# Altium footprint library LTC2954.PcbLib: 4 footprints
Each footprint in its own frame and in the unit in brackets; x right, y up, seen from the top. Pads: shape width x height; smd on the part's side, far side on the other; paste and mask are expansions set on the pad; w line width, h text height; cw(c..) or ccw(c..) is an arc to the next point about the centre after c.
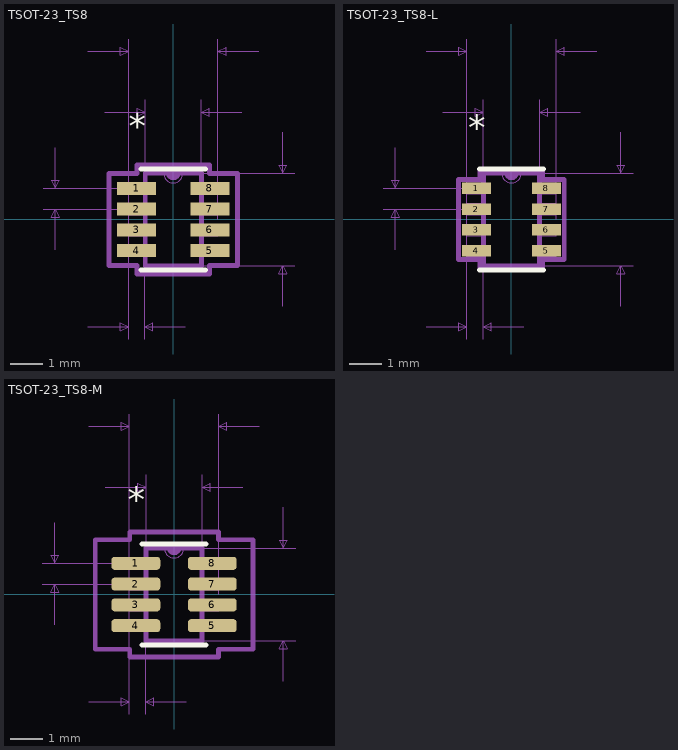
[diagram p0: the footprints below, top view; thin cyan lines are the x and y axes]

## PCBComponent_1 [mil]

## TSOT-23_TS8 [mil]
pads (8):
  rect 48x16 smd: 1(-45,38.39) 2(-45,12.8) 3(-45,-12.8) 4(-45,-38.39) 5(45,-38.39) 6(45,-12.8) 7(45,12.8) 8(45,38.39)
Top Overlay:
  lines w6: -39.5,-62 39.5,-62 ; -39.5,62 39.5,62
  text "*" at -55,99.39 h31.25
Mechanical 1:
  lines w1: -12,57 ccw(c0,57) 12,57 ; -55,-45.39 -34.5,-45.39 -34.5,-31.39 -55,-31.39 -55,-45.39 ; -55,-19.8 -34.5,-19.8 -34.5,-5.8 -55,-5.8 -55,-19.8 ; -55,5.8 -34.5,5.8 -34.5,19.8 -55,19.8 -55,5.8 ; -55,31.39 -34.5,31.39 -34.5,45.39 -55,45.39 -55,31.39 ; -34.5,-57 -34.5,57 34.5,57 34.5,-57 -34.5,-57 ; 34.5,-45.39 55,-45.39 55,-31.39 34.5,-31.39 34.5,-45.39 ; 34.5,-19.8 55,-19.8 55,-5.8 34.5,-5.8 34.5,-19.8 ; 34.5,5.8 55,5.8 55,19.8 34.5,19.8 34.5,5.8 ; 34.5,31.39 55,31.39 55,45.39 34.5,45.39 34.5,31.39
  text "*" at -19.5,54 h31.25
Mechanical 16:
  lines w1: -160,12.8 -45,12.8 ; -160,38.39 -45,38.39 ; -145,-37.2 -145,12.8 ; -145,88.39 -145,38.39 ; -105,-132 -55,-132 ; -105,207 -55,207 ; -84.5,132 -34.5,132 ; -55,-147 -55,0 -55,222 ; -35,-147 -35,0 ; -34.5,0 -34.5,147 ; 0,-57 149.5,-57 ; 0,57 149.5,57 ; 15,-132 -35,-132 ; 34.5,0 34.5,147 ; 55,0 55,222 ; 84.5,132 34.5,132 ; 105,207 55,207 ; 134.5,-107 134.5,-57 ; 134.5,107 134.5,57 ; -145,12.8 -140,2.8 -150,2.8 -145,12.8 ; -145,38.39 -140,48.39 -150,48.39 -145,38.39 ; -55,-132 -65,-137 -65,-127 -55,-132 ; -55,207 -65,202 -65,212 -55,207 ; -35,-132 -25,-137 -25,-127 -35,-132 ; -34.5,132 -44.5,127 -44.5,137 -34.5,132 ; 34.5,132 44.5,127 44.5,137 34.5,132 ; 55,207 65,202 65,212 55,207 ; 134.5,-57 139.5,-67 129.5,-67 134.5,-57 ; 134.5,57 139.5,67 129.5,67 134.5,57
  lines w6: -5.75,57 ccw(c0,57) 5.75,57 ; -79,-56.39 -44.5,-56.39 -44.5,-67 44.5,-67 44.5,-56.39 79,-56.39 79,56.39 44.5,56.39 44.5,67 -44.5,67 -44.5,56.39 -79,56.39 -79,-56.39 ; -34.5,-57 34.5,-57 34.5,57 -34.5,57 -34.5,-57
  text "0.02in/0.508mm" at -45,-152 h15.62
  text "0.026in/0.65mm" at -165,25.59 h15.62
  text "0.114in/2.896mm" at 154.5,0 h15.62
  text "0.11in/2.794mm" at 0,227 h15.62
  text "0.069in/1.753mm" at 0,152 h15.62
  text "Alt 2 Padstyle: OX90Y60D30P" at 0,-507 h31.25
  text "Alt 1 Padstyle: OX60Y90D30P" at 0,-447 h31.25
  text "Pin One Padstyle: RX48Y16D0T" at 0,-267 h31.25
  text "Default Padstyle: RX48Y16D0T" at 0,-207 h31.25

## TSOT-23_TS8-L [mil]
pads (8):
  rect 36x14 smd: 1(-43,38.39) 2(-43,12.8) 3(-43,-12.8) 4(-43,-38.39) 5(43,-38.39) 6(43,-12.8) 7(43,12.8) 8(43,38.39)
Top Overlay:
  lines w6: -39.5,-62 39.5,-62 ; -39.5,62 39.5,62
  text "*" at -53,97.39 h31.25
Mechanical 1:
  lines w1: -12,57 ccw(c0,57) 12,57 ; -55,-45.39 -34.5,-45.39 -34.5,-31.39 -55,-31.39 -55,-45.39 ; -55,-19.8 -34.5,-19.8 -34.5,-5.8 -55,-5.8 -55,-19.8 ; -55,5.8 -34.5,5.8 -34.5,19.8 -55,19.8 -55,5.8 ; -55,31.39 -34.5,31.39 -34.5,45.39 -55,45.39 -55,31.39 ; -34.5,-57 -34.5,57 34.5,57 34.5,-57 -34.5,-57 ; 34.5,-45.39 55,-45.39 55,-31.39 34.5,-31.39 34.5,-45.39 ; 34.5,-19.8 55,-19.8 55,-5.8 34.5,-5.8 34.5,-19.8 ; 34.5,5.8 55,5.8 55,19.8 34.5,19.8 34.5,5.8 ; 34.5,31.39 55,31.39 55,45.39 34.5,45.39 34.5,31.39
  text "*" at -19.5,54 h31.25
Mechanical 16:
  lines w1: -158,12.8 -43,12.8 ; -158,38.39 -43,38.39 ; -143,-37.2 -143,12.8 ; -143,88.39 -143,38.39 ; -105,-132 -55,-132 ; -105,207 -55,207 ; -84.5,132 -34.5,132 ; -55,-147 -55,0 -55,222 ; -35,-147 -35,0 ; -34.5,0 -34.5,147 ; 0,-57 149.5,-57 ; 0,57 149.5,57 ; 15,-132 -35,-132 ; 34.5,0 34.5,147 ; 55,0 55,222 ; 84.5,132 34.5,132 ; 105,207 55,207 ; 134.5,-107 134.5,-57 ; 134.5,107 134.5,57 ; -143,12.8 -138,2.8 -148,2.8 -143,12.8 ; -143,38.39 -138,48.39 -148,48.39 -143,38.39 ; -55,-132 -65,-137 -65,-127 -55,-132 ; -55,207 -65,202 -65,212 -55,207 ; -35,-132 -25,-137 -25,-127 -35,-132 ; -34.5,132 -44.5,127 -44.5,137 -34.5,132 ; 34.5,132 44.5,127 44.5,137 34.5,132 ; 55,207 65,202 65,212 55,207 ; 134.5,-57 139.5,-67 129.5,-67 134.5,-57 ; 134.5,57 139.5,67 129.5,67 134.5,57
  lines w6: -5.75,57 ccw(c0,57) 5.75,57 ; -65,-49.39 -38.5,-49.39 -38.5,-61 38.5,-61 38.5,-49.39 65,-49.39 65,49.39 38.5,49.39 38.5,61 -38.5,61 -38.5,49.39 -65,49.39 -65,-49.39 ; -34.5,-57 34.5,-57 34.5,57 -34.5,57 -34.5,-57
  text "0.02in/0.508mm" at -45,-152 h15.62
  text "0.026in/0.65mm" at -163,25.59 h15.62
  text "0.114in/2.896mm" at 154.5,0 h15.62
  text "0.11in/2.794mm" at 0,227 h15.62
  text "0.069in/1.753mm" at 0,152 h15.62
  text "Alt 2 Padstyle: OX90Y60D30P" at 0,-507 h31.25
  text "Alt 1 Padstyle: OX60Y90D30P" at 0,-447 h31.25
  text "Pin One Padstyle: RX36Y14D0T" at 0,-267 h31.25
  text "Default Padstyle: RX36Y14D0T" at 0,-207 h31.25

## TSOT-23_TS8-M [mil]
pads (8):
  rrect50% 60x16 smd: 1(-47,38.39) 2(-47,12.8) 3(-47,-12.8) 4(-47,-38.39) 5(47,-38.39) 6(47,-12.8) 7(47,12.8) 8(47,38.39)
Top Overlay:
  lines w6: -39.5,-62 39.5,-62 ; -39.5,62 39.5,62
  text "*" at -57,101.39 h31.25
Mechanical 1:
  lines w1: -12,57 ccw(c0,57) 12,57 ; -55,-45.39 -55,-31.39 -34.5,-31.39 -34.5,-45.39 -55,-45.39 ; -55,-19.8 -55,-5.8 -34.5,-5.8 -34.5,-19.8 -55,-19.8 ; -55,5.8 -55,19.8 -34.5,19.8 -34.5,5.8 -55,5.8 ; -55,31.39 -55,45.39 -34.5,45.39 -34.5,31.39 -55,31.39 ; -34.5,-57 34.5,-57 34.5,57 -34.5,57 -34.5,-57 ; 34.5,-45.39 34.5,-31.39 55,-31.39 55,-45.39 34.5,-45.39 ; 34.5,-19.8 34.5,-5.8 55,-5.8 55,-19.8 34.5,-19.8 ; 34.5,5.8 34.5,19.8 55,19.8 55,5.8 34.5,5.8 ; 34.5,31.39 34.5,45.39 55,45.39 55,31.39 34.5,31.39
  text "*" at -19.5,54 h31.25
Mechanical 16:
  lines w1: -162,12.8 -47,12.8 ; -162,38.39 -47,38.39 ; -147,-37.2 -147,12.8 ; -147,88.39 -147,38.39 ; -105,-132 -55,-132 ; -105,207 -55,207 ; -84.5,132 -34.5,132 ; -55,-147 -55,0 -55,222 ; -35,-147 -35,0 ; -34.5,0 -34.5,147 ; 0,-57 149.5,-57 ; 0,57 149.5,57 ; 15,-132 -35,-132 ; 34.5,0 34.5,147 ; 55,0 55,222 ; 84.5,132 34.5,132 ; 105,207 55,207 ; 134.5,-107 134.5,-57 ; 134.5,107 134.5,57 ; -147,12.8 -152,2.8 -142,2.8 -147,12.8 ; -147,38.39 -152,48.39 -142,48.39 -147,38.39 ; -55,-132 -65,-127 -65,-137 -55,-132 ; -55,207 -65,212 -65,202 -55,207 ; -35,-132 -25,-127 -25,-137 -35,-132 ; -34.5,132 -44.5,137 -44.5,127 -34.5,132 ; 34.5,132 44.5,137 44.5,127 34.5,132 ; 55,207 65,212 65,202 55,207 ; 134.5,-57 129.5,-67 139.5,-67 134.5,-57 ; 134.5,57 129.5,67 139.5,67 134.5,57
  lines w6: -5.75,57 ccw(c0,57) 5.75,57 ; -97,-67.39 -97,67.39 -54.5,67.39 -54.5,77 54.5,77 54.5,67.39 97,67.39 97,-67.39 54.5,-67.39 54.5,-77 -54.5,-77 -54.5,-67.39 -97,-67.39 ; -34.5,-57 -34.5,57 34.5,57 34.5,-57 -34.5,-57
  text "Default Padstyle: RX60Y18D0T" at 0,-207 h31.25
  text "Pin One Padstyle: RX60Y18D0T" at 0,-267 h31.25
  text "Alt 1 Padstyle: OX60Y90D30P" at 0,-447 h31.25
  text "Alt 2 Padstyle: OX90Y60D30P" at 0,-507 h31.25
  text "0.069in/1.753mm" at 0,152 h15.62
  text "0.11in/2.794mm" at 0,227 h15.62
  text "0.114in/2.896mm" at 154.5,0 h15.62
  text "0.026in/0.65mm" at -167,25.59 h15.62
  text "0.02in/0.508mm" at -45,-152 h15.62